# EAGLE library part WE-RJ45_7499011121A (library Wurth_Signal & Communications_WE-RJ45_LAN)
WE-RJ45 LAN Transformer Characteristics RJ45 Connector with integrated transformer / common mode choke Power over Ethernet up to 50 Watt and speeds up to 10 Gbit/s Available in SMD, THT and THT with USB Compliant with standards: IEEE 802.3u, IEEE 802.3ab, IEEE 802.3af, IEEE 802.3at, IEEE 802.3an and upcoming IEE 802.3bt Applications Suitable for industrial temperatures from –40 °C up to +85 °C Compatible to Industrial Ethernet systems like EtherCAT or Profinet Compliant with most IC’s for Ethernet applications such as Microchip, Texas Instruments, Broadcom, Linear Technology Hubs, Routers, Switches, IP cameras, IoT applications <https://www.we-online.com/components/media/o35731v209%20Family-WE-RJ45LAN-7499xxxxxx.jpg> Details see: www.we-online.com/components/products/WE-LAN-RJ45 <www.we-online.com/catalog/WE-LAN-RJ45/?utm_source=eagle_model&utm_medium=description_link&utm_campaign=eisos_eagle> Updated by Ella Wu 2023-08-16 2023 (C) Wurth Elektronik
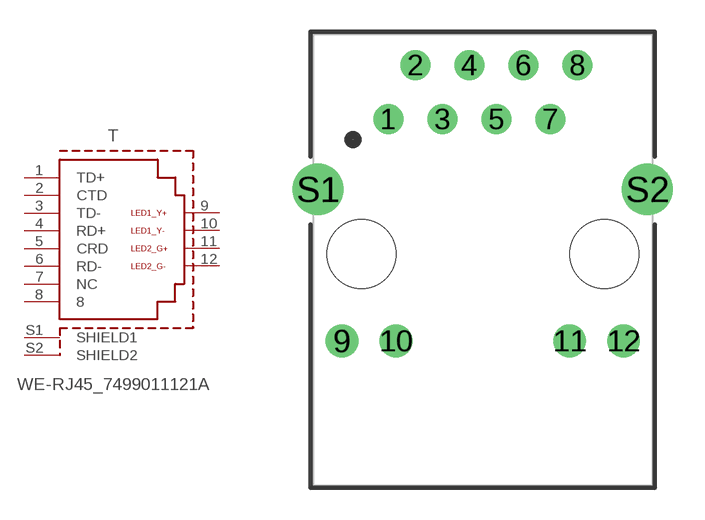
[diagram p56: symbol with the pads of 7499011121A; footprint 7499011121A]

Designator prefix T

## WE-RJ45_7499011121A (DATA-RATE: 10/100 Base-T; DATASHEET-URL: https://www.we-online.com/redexpert/spec/7499011121A?ae; LED: yellow-green; MOUNT: THT; PART-NUMBER: 7499011121A; POE: non-PoE; PORTS: 1; USB: No; VALUE: 7499011121A)  [7499011121A]
1  TD+  pas
2  CTD  pas
3  TD-  pas
4  RD+  pas
5  CRD  pas
6  RD-  pas
7  NC  pas
8  8  pas
9  LED1_Y+  pas
10  LED1_Y-  pas
11  LED2_G+  pas
12  LED2_G-  pas
S1  SHIELD1  pas
S2  SHIELD2  pas

## Footprint 7499011121A (pad centres in mm)
WE-RJ45 LAN Transformer 10/100 Base-T
drill 0.9: 1 -4.445,6.35; 2 -3.175,8.89; 3 -1.905,6.35; 4 -0.635,8.89; 5 0.635,6.35; 6 1.905,8.89; 7 3.175,6.35; 8 4.445,8.89
drill 1.03: 9 -6.625,-4.08; 10 -4.085,-4.08; 11 4.085,-4.08; 12 6.625,-4.08
drill 1.6: S1 -7.745,3.05; S2 7.745,3.05
hole 3.25 at 5.715,0
hole 3.25 at -5.715,0